# Altium footprint library WT12.PcbLib: 1 footprints
Each footprint in its own frame and in the unit in brackets; x right, y up, seen from the top. Pads: shape width x height; smd on the part's side, far side on the other; paste and mask are expansions set on the pad; w line width, h text height; cw(c..) or ccw(c..) is an arc to the next point about the centre after c.
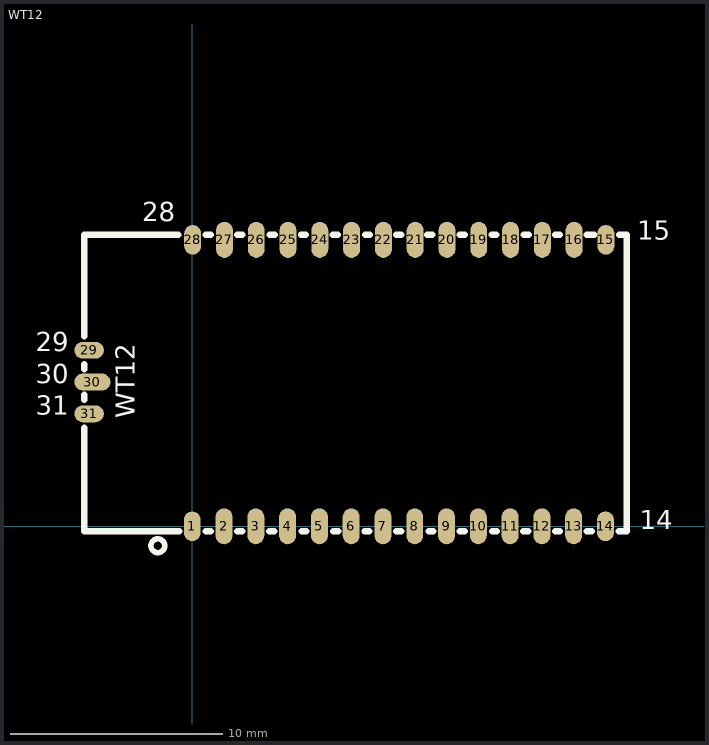
[diagram p0: the footprint, top view; thin cyan lines are the x and y axes]

## WT12 [mm] "BlueGiga WT12 Bluetooth Module"
height 2.4
pads (31):
  rrect100% 0.8x1.4 smd: 1(0,0) 14(19.5,0) 15(19.519,13.52) 28(0.019,13.52)
  rrect100% 0.8x1.7 smd: 2(1.5,0) 3(3,0) 4(4.5,0) 5(6,0) 6(7.5,0) 7(9,0) 8(10.5,0) 9(12,0) 10(13.5,0) 11(15,0) 12(16.5,0) 13(18,0) 16(18.019,13.52) 17(16.519,13.52) 18(15.019,13.52) 19(13.519,13.52) 20(12.019,13.52) 21(10.519,13.52) 22(9.019,13.52) 23(7.519,13.52) 24(6.019,13.52) 25(4.519,13.52) 26(3.019,13.52) 27(1.519,13.52)
  rrect100% 1.4x0.8 smd: 29(-4.868,8.308) 31(-4.868,5.308)
  rrect100% 1.7x0.8 smd: 30(-4.712,6.808)
TopOverlay:
  circle w0.254: c-1.626,-0.917 r0.327
  lines w0.305: -5.102,-0.239 -0.61,-0.239 ; -5.102,13.761 -0.66,13.761 ; -5.1,-0.239 -5.1,4.653 ; -5.1,5.974 -5.1,6.203 ; -5.1,7.422 -5.1,7.65 ; -5.1,8.971 -5.1,13.761 ; 0.635,-0.239 0.864,-0.239 ; 0.635,13.761 0.864,13.761 ; 2.134,-0.239 2.362,-0.239 ; 2.134,13.761 2.362,13.761 ; 3.632,-0.239 3.861,-0.239 ; 3.658,13.761 3.886,13.761 ; 5.131,13.761 5.359,13.761 ; 5.156,-0.239 5.385,-0.239 ; 6.629,13.761 6.858,13.761 ; 6.655,-0.239 6.883,-0.239 ; 8.128,-0.239 8.357,-0.239 ; 8.153,13.761 8.382,13.761 ; 9.627,-0.239 9.855,-0.239 ; 9.627,13.761 9.855,13.761 ; 11.1,13.761 11.328,13.761 ; 11.151,-0.239 11.379,-0.239 ; 12.624,-0.239 12.852,-0.239 ; 12.624,13.761 12.852,13.761 ; 14.122,13.761 14.351,13.761 ; 14.148,-0.239 14.376,-0.239 ; 15.621,-0.239 15.85,-0.239 ; 15.646,13.761 15.875,13.761 ; 17.12,-0.239 17.348,-0.239 ; 17.12,13.761 17.348,13.761 ; 18.618,-0.239 18.847,-0.239 ; 18.618,13.761 18.974,13.761 ; 20.117,-0.239 20.5,-0.239 20.5,13.761 20.142,13.761
  text "30" at -7.382,6.434 h1.52
  text "29" at -7.382,7.958 h1.52
  text "31" at -7.382,4.961 h1.52
  text "WT12" at -2.413,5.11 h1.52
  text "14" at 21.124,-0.456 h1.52
  text "15" at 21.01,13.221 h1.52
  text "28" at -2.356,14.095 h1.52
3D body: height 2.29, standoff 0.81, extent -0.381,0.051 19.685,13.513
3D body: height 0.81, standoff 0, extent -4.928,-0.203 20.295,13.767